# EAGLE library part VL53L0X (library telemetry_module)
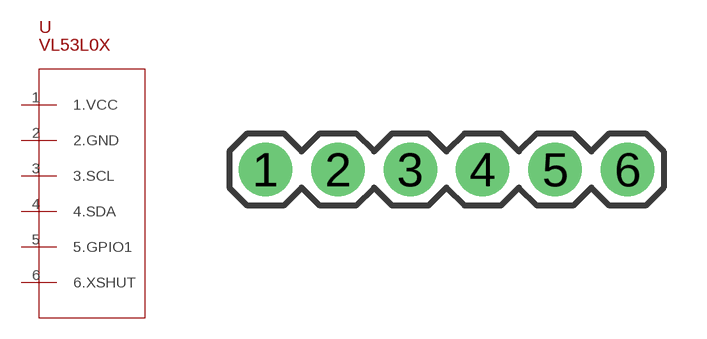
[diagram p4: symbol with the pads of 1X06; footprint 1X06]

Designator prefix -

## VL53L0X  [1X06]
1  1.VCC
2  2.GND
3  3.SCL
4  4.SDA
5  5.GPIO1
6  6.XSHUT

## Footprint 1X06 (pad centres in mm)
Plated Through Hole - 6 Pin Specifications: Pin count:6 Pin pitch:0.1" Example device(s): CONN_06
drill 1.016 pad 1.88: 1 0,0; 2 2.54,0; 3 5.08,0; 4 7.62,0; 5 10.16,0; 6 12.7,0